# Altium schematic symbol library GNS-3013A.SchLib: 1 symbol
Pins are listed as number, name and electrical type; pins without a type are passive.

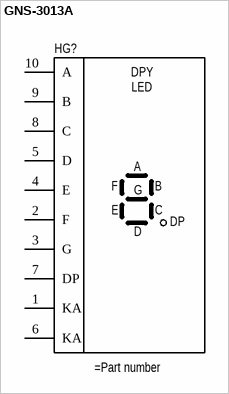
[diagram p0: symbol GNS-3013A]

## GNS-3013A
designator HG?
pins: 1 KA, 2 F, 3 G, 4 E, 5 D, 6 KA, 7 DP, 8 C, 9 B, 10 A
text: DPY; LED